# EAGLE library part MAX4310 (library maxim)
Video Multiplexer-Amplifier High-Speed, Low-Power, Single-Supply, Multichannel
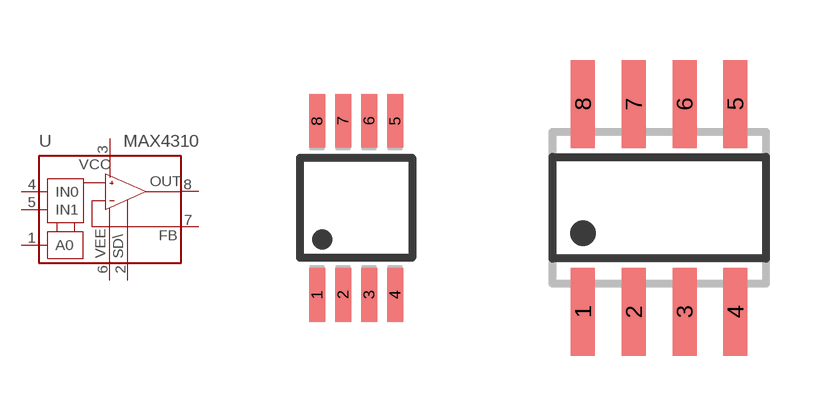
[diagram p381: symbol with the pads of UMAX8; footprints UMAX8, SO08]

Designator prefix U

## MAX4310ESA  [UMAX8]
1  A0  in
2  !SHDN!  in
3  V+  pwr
4  IN0  in
5  IN1  in
6  V-  pwr
7  FB  pwr
8  OUT  out

## MAX4310EUA  [SO08]
Pads as for UMAX8

## Footprint UMAX8 (pad centres in mm)
micro MAX Package
smd 0.4 x 1.35: 1 -0.975,-2.175; 2 -0.325,-2.175; 3 0.325,-2.175; 4 0.975,-2.175; 5 0.975,2.175; 6 0.325,2.175; 7 -0.325,2.175; 8 -0.975,2.175

## Footprint SO08 (pad centres in mm)
SMALL OUTLINE INTEGRATED CIRCUIT body 3.9 mm/JEDEC MS-012AA
smd 0.6 x 2.2: 1 -1.905,-2.6; 2 -0.635,-2.6; 3 0.635,-2.6; 4 1.905,-2.6; 5 1.905,2.6; 6 0.635,2.6; 7 -0.635,2.6; 8 -1.905,2.6